# Altium footprint library analogmushroom.PcbLib: 50 footprints (part 4 of 4)
Each footprint in its own frame and in the unit in brackets; x right, y up, seen from the top. Pads: shape width x height; smd on the part's side, far side on the other; paste and mask are expansions set on the pad; w line width, h text height; cw(c..) or ccw(c..) is an arc to the next point about the centre after c.
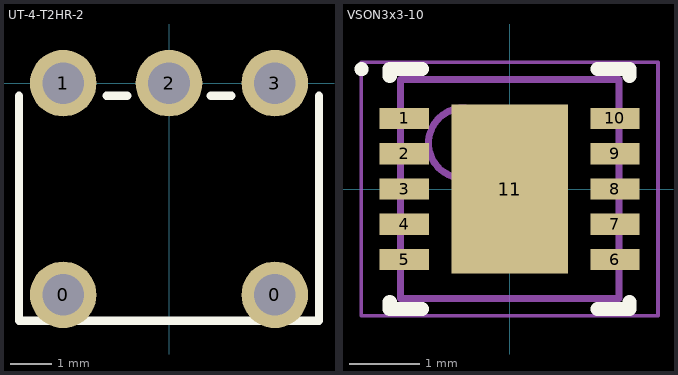
[diagram p3: the footprints below, top view; thin cyan lines are the x and y axes]

## UT-4-T2HR-2 [mm]
pads (5):
  round 1.6 hole 1: 0(-2.54,-5.08) 0(2.54,-5.08) 1(-2.54,0) 2(0,0) 3(2.54,0)
Top Overlay:
  lines w0.2: -3.6,-0.3 -3.6,-5.7 3.6,-5.7 3.6,-0.3 ; -1.5,-0.3 -1,-0.3 ; 1,-0.3 1.5,-0.3
3D body "零件1.STEP": height 4.48, standoff -0.02, extent -3.5,-7.5 3.5,-0.5

## VSON3x3-10 [mm]
height 1
pads (11):
  rect 0.7x0.3 smd: 1(-1.495,1) 2(-1.495,0.5) 3(-1.495,0) 4(-1.495,-0.5) 5(-1.495,-1) 6(1.495,-1) 7(1.495,-0.5) 8(1.495,0) 9(1.495,0.5) 10(1.495,1)
  rect 1.65x2.4 smd: 11(0,0)
Top Overlay:
  circle w0.1: c-2.1,1.7 r0.05
  lines w0.2: -1.7,-1.6 -1.7,-1.7 -1.245,-1.7 ; -1.7,1.6 -1.7,1.7 -1.245,1.7 ; 1.245,-1.7 1.7,-1.7 1.7,-1.6 ; 1.245,1.7 1.7,1.7 1.7,1.6
Mechanical 13:
  circle w0.1: c-0.65,0.65 r0.5
  lines w0.1: -1.55,-1.55 1.55,-1.55 1.55,1.55 -1.55,1.55 -1.55,-1.55
Mechanical 15:
  lines w0.05: -2.105,-1.8 2.105,-1.8 2.105,1.8 -2.105,1.8 -2.105,-1.8
  lines w0.1: -0.5,0 0.5,0 ; 0,-0.5 0,0.5
3D body "SON50P300X100_HS-11N.step": height 1, standoff 0, extent -1.6,-1.55 1.6,1.55